# EAGLE library part IN-16-NIXIE (library NixieDisplay)
Large Nixie Tube with 0-9 digits and two dots
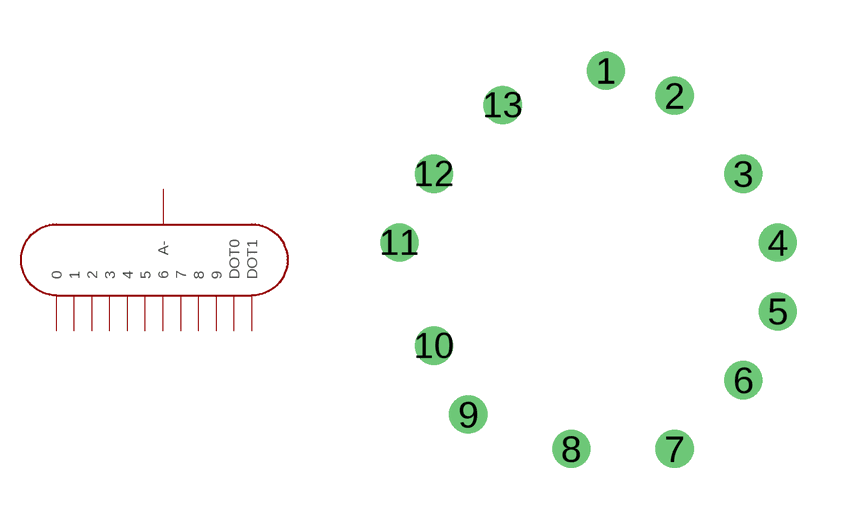
[diagram p15: symbol with the pads of IN-16-NIXIE; footprint IN-16-NIXIE]

Designator prefix N

## IN-16-NIXIE  [IN-16-NIXIE]
1  0
2  1
3  2
4  3
5  4
6  5
7  6
8  7
9  8
10  9
11  A-
12  DOT0
13  DOT1

## Footprint IN-16-NIXIE (pad centres in mm)
drill 0.6: 1 1,6; 2 3,5.27; 3 5,3; 4 6,1; 5 6,-1; 6 5,-3; 7 3,-5; 8 0,-5; 9 -3,-4; 10 -4,-2; 11 -5,1; 12 -4,3; 13 -2,5